# EAGLE library part MAX3421EEHJ+ (library my_devices)
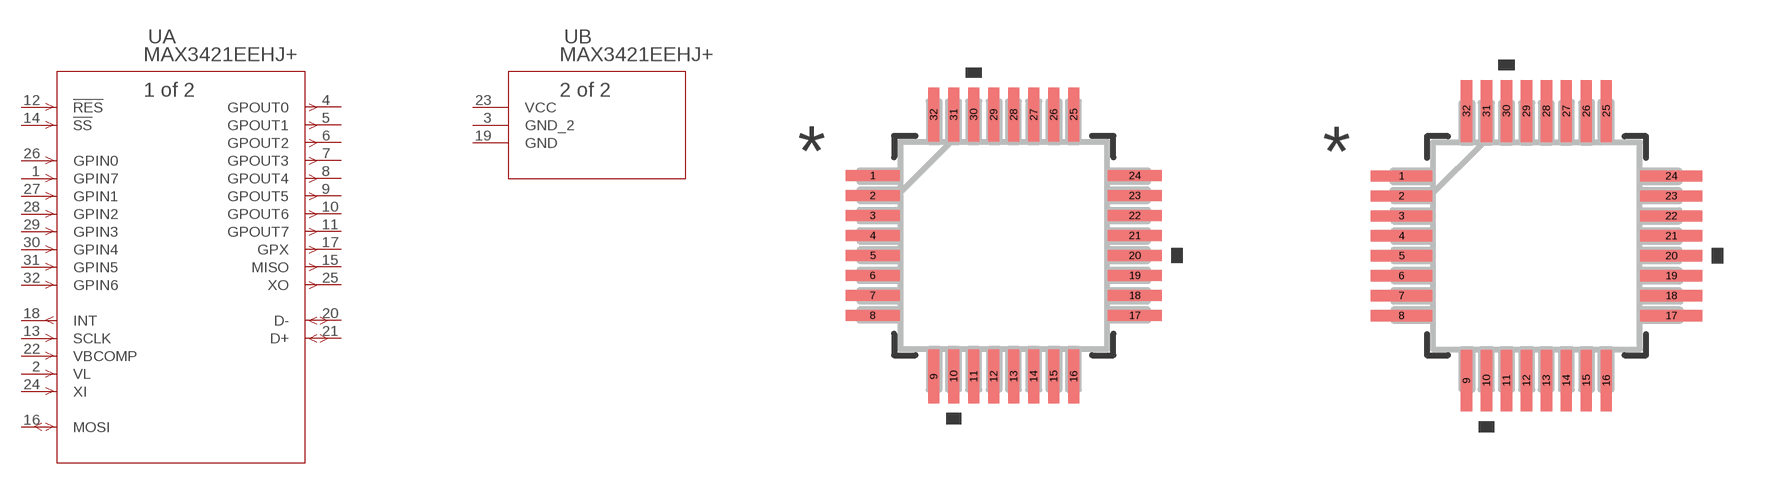
[diagram p23: symbol with the pads of 21-0110B_MXM; footprints 21-0110B_MXM, 21-0110B_MXM-M]

Designator prefix U; gates A=MAX3421EEHJ+ B=MAX3421EEHJ+_A

## MAX3421EEHJ+ (COPYRIGHT: Copyright (C) 2022 Ultra Librarian. All rights reserved.; MANUFACTURER_PART_NUMBER: MAX3421EEHJ+; MFR_NAME: Maxim Integrated Products)  [21-0110B_MXM]
1  A:GPIN7  in
2  A:VL  in
3  B:GND_2  pwr
4  A:GPOUT0  out
5  A:GPOUT1  out
6  A:GPOUT2  out
7  A:GPOUT3  out
8  A:GPOUT4  out
9  A:GPOUT5  out
10  A:GPOUT6  out
11  A:GPOUT7  out
12  A:!RES  in
13  A:SCLK  in
14  A:!SS  in
15  A:MISO  out
16  A:MOSI
17  A:GPX  out
18  A:INT  out
19  B:GND  pwr
20  A:D-
21  A:D+
22  A:VBCOMP  in
23  B:VCC  pwr
24  A:XI  in
25  A:XO  out
26  A:GPIN0  in
27  A:GPIN1  in
28  A:GPIN2  in
29  A:GPIN3  in
30  A:GPIN4  in
31  A:GPIN5  in
32  A:GPIN6  in

## MAX3421EEHJ+21-0110B_MXM-M (COPYRIGHT: Copyright (C) 2022 Ultra Librarian. All rights reserved.; MANUFACTURER_PART_NUMBER: MAX3421EEHJ+; MFR_NAME: Maxim Integrated Products)  [21-0110B_MXM-M]
Pads as for 21-0110B_MXM

## MAX3421EEHJ+21-0110B_MXM-L (COPYRIGHT: Copyright (C) 2022 Ultra Librarian. All rights reserved.; MANUFACTURER_PART_NUMBER: MAX3421EEHJ+; MFR_NAME: Maxim Integrated Products)  [21-0110B_MXM-L]
Pads as for 21-0110B_MXM

## Footprint 21-0110B_MXM (pad centres in mm)
smd 1.346 x 0.279: 1 -3.277,1.75; 2 -3.277,1.25; 3 -3.277,0.75; 4 -3.277,0.25; 5 -3.277,-0.25; 6 -3.277,-0.75; 7 -3.277,-1.25; 8 -3.277,-1.75; 17 3.277,-1.75; 18 3.277,-1.25; 19 3.277,-0.75; 20 3.277,-0.25; 21 3.277,0.25; 22 3.277,0.75; 23 3.277,1.25; 24 3.277,1.75
smd 0.279 x 1.346: 9 -1.75,-3.277; 10 -1.25,-3.277; 11 -0.75,-3.277; 12 -0.25,-3.277; 13 0.25,-3.277; 14 0.75,-3.277; 15 1.25,-3.277; 16 1.75,-3.277; 25 1.75,3.277; 26 1.25,3.277; 27 0.75,3.277; 28 0.25,3.277; 29 -0.25,3.277; 30 -0.75,3.277; 31 -1.25,3.277; 32 -1.75,3.277

## Footprint 21-0110B_MXM-M (pad centres in mm)
smd 1.549 x 0.279: 1 -3.378,1.75; 2 -3.378,1.25; 3 -3.378,0.75; 4 -3.378,0.25; 5 -3.378,-0.25; 6 -3.378,-0.75; 7 -3.378,-1.25; 8 -3.378,-1.75; 17 3.378,-1.75; 18 3.378,-1.25; 19 3.378,-0.75; 20 3.378,-0.25; 21 3.378,0.25; 22 3.378,0.75; 23 3.378,1.25; 24 3.378,1.75
smd 0.279 x 1.549: 9 -1.75,-3.378; 10 -1.25,-3.378; 11 -0.75,-3.378; 12 -0.25,-3.378; 13 0.25,-3.378; 14 0.75,-3.378; 15 1.25,-3.378; 16 1.75,-3.378; 25 1.75,3.378; 26 1.25,3.378; 27 0.75,3.378; 28 0.25,3.378; 29 -0.25,3.378; 30 -0.75,3.378; 31 -1.25,3.378; 32 -1.75,3.378

## Footprint 21-0110B_MXM-L (pad centres in mm)
smd 1.143 x 0.229: 1 -3.175,1.75; 2 -3.175,1.25; 3 -3.175,0.75; 4 -3.175,0.25; 5 -3.175,-0.25; 6 -3.175,-0.75; 7 -3.175,-1.25; 8 -3.175,-1.75; 17 3.175,-1.75; 18 3.175,-1.25; 19 3.175,-0.75; 20 3.175,-0.25; 21 3.175,0.25; 22 3.175,0.75; 23 3.175,1.25; 24 3.175,1.75
smd 0.229 x 1.143: 9 -1.75,-3.175; 10 -1.25,-3.175; 11 -0.75,-3.175; 12 -0.25,-3.175; 13 0.25,-3.175; 14 0.75,-3.175; 15 1.25,-3.175; 16 1.75,-3.175; 25 1.75,3.175; 26 1.25,3.175; 27 0.75,3.175; 28 0.25,3.175; 29 -0.25,3.175; 30 -0.75,3.175; 31 -1.25,3.175; 32 -1.75,3.175